# Altium footprint library PCB - SWITCH - NKK MS12ASG13.PCBLIB: 1 footprints
Each footprint in its own frame and in the unit in brackets; x right, y up, seen from the top. Pads: shape width x height; smd on the part's side, far side on the other; paste and mask are expansions set on the pad; w line width, h text height; cw(c..) or ccw(c..) is an arc to the next point about the centre after c.
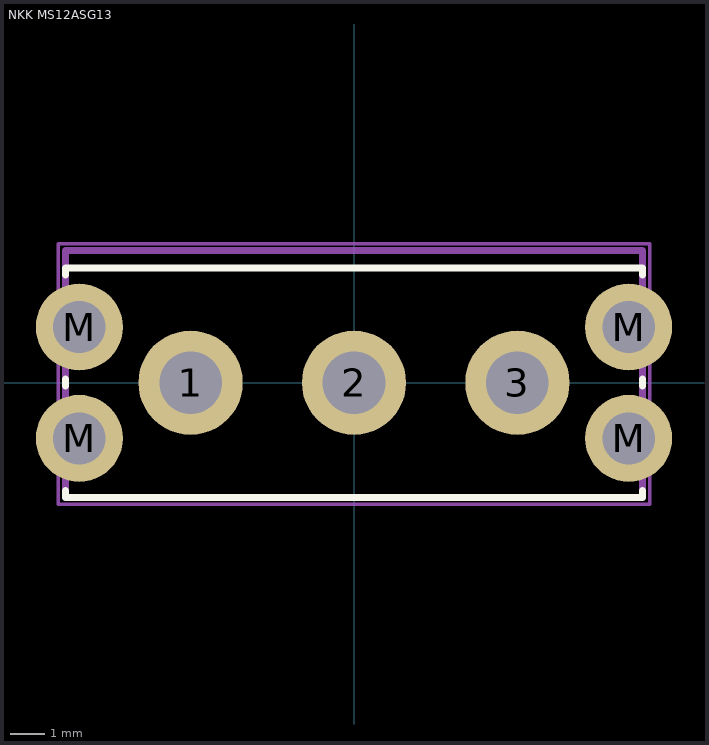
[diagram p0: the footprint, top view; thin cyan lines are the x and y axes]

## NKK MS12ASG13 [mm]
height 13.4
pads (7):
  round 3 hole 1.8: 1(-4.7,0) 2(0,0) 3(4.7,0)
  round 2.5 hole 1.5: M(-7.9,-1.6) M(-7.9,1.6) M(7.9,-1.6) M(7.9,1.6)
Top Overlay:
  lines w0.2: -8.3,-3.1 -8.3,-3.3 8.3,-3.3 8.3,-3.1 ; -8.3,-0.1 -8.3,0.1 ; -8.3,3.1 -8.3,3.3 8.3,3.3 8.3,3.1 ; 8.3,-0.1 8.3,0.1
Top Component Outline:
  lines w0.2: -8.3,-3.3 -8.3,3.8 8.3,3.8 8.3,-3.3 -8.3,-3.3
Top Courtyard (Mech15):
  lines w0.1: -0.5,0 0.5,0 ; 0,-0.5 0,0.5 ; -8.5,-3.5 -8.5,4 8.5,4 8.5,-3.5 -8.5,-3.5
3D body "NKK MS12ASG13.step": height 13.41, standoff -4.8, extent -8.306,-3.302 8.306,3.81